# EAGLE library part 1PEEK-7_C (library con-odu_med)
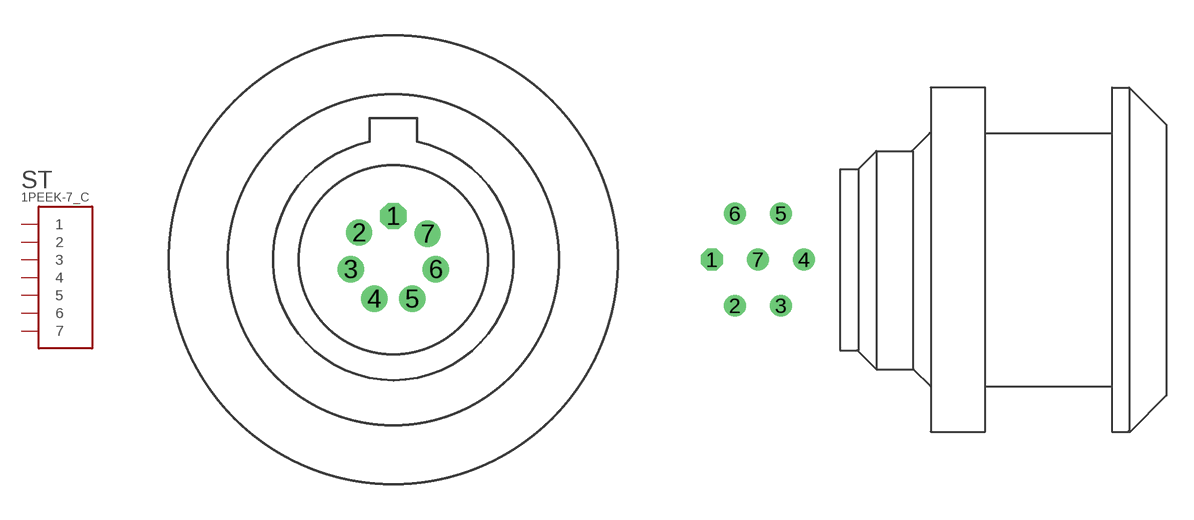
[diagram p16: symbol with the pads of 1PEEK07; footprints 1PEEK07, 1PEEK07_S]

Designator prefix ST

## 1PEEK-7_C  [1PEEK07]
1  1  pas
2  2  pas
3  3  pas
4  4  pas
5  5  pas
6  6  pas
7  7  pas

## 1PEEK-7_C1PEEK-7_S  [1PEEK07_S]
Pads as for 1PEEK07

## Footprint 1PEEK07 (pad centres in mm)
drill 0.6 octagon: 1 0,1.85
drill 0.6: 2 -1.45,1.15; 3 -1.8,-0.4; 4 -0.8,-1.65; 5 0.8,-1.65; 6 1.8,-0.4; 7 1.45,1.1

## Footprint 1PEEK07_S (pad centres in mm)
drill 0.7 octagon: 1 -5.08,0
drill 0.7: 2 -3.81,-2.54; 3 -1.27,-2.54; 4 0,0; 5 -1.27,2.54; 6 -3.81,2.54; 7 -2.54,0